# Altium schematic symbol library GENERIC_TRANSIL.Schlib: 1 symbol
Pins are listed as number, name and electrical type; pins without a type are passive.

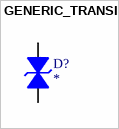
[diagram p0: symbol GENERIC_TRANSIL]

## GENERIC_TRANSIL
designator D?
pins: 1 K, 2 A